# Altium schematic symbol library SN74LVC541APWR.SchLib: 1 symbol
Pins are listed as number, name and electrical type; pins without a type are passive.

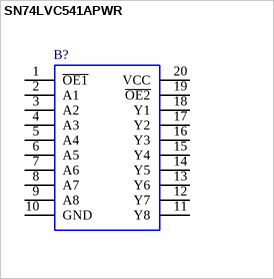
[diagram p0: symbol SN74LVC541APWR]

## SN74LVC541APWR
designator B?
SN74LVC541APWR, 8-Bit Buffer, Line Driver, LVC, 3-State Non-Inverting 1.65  3.6 V 20-Pin TSSOP; Manufacturer_Name: Texas Instruments; Geometry.Height: 1.2mm; Manufacturer_Part_Number: SN74LVC541APWR; Mouser Part Number: 595-SN74LVC541APWR; Mouser Price/Stock: https://www.mouser.co.uk/ProductDetail/Texas-Instruments/SN74LVC541APWR?qs=DcvZ7Fltd5yUfWNWQTtNtQ%3D%3D; Arrow Part Number: SN74LVC541APWR; Arrow Price/Stock: https://www.arrow.com/en/products/sn74lvc541apwr/texas-instruments?region=nac; Mouser Testing Part Number: *; Mouser Testing Price/Stock: *; Datasheet Link: https://datasheet.datasheetarchive.com/originals/distributors/SFDatasheet-6/sf-000126984.pdf
footprint SOP65P640X120-20N
pins: 1 ~{OE1}, 2 A1, 3 A2, 4 A3, 5 A4, 6 A5, 7 A6, 8 A7, 9 A8, 10 GND, 11 Y8, 12 Y7, 13 Y6, 14 Y5, 15 Y4, 16 Y3, 17 Y2, 18 Y1, 19 ~{OE2}, 20 VCC